# EAGLE library part LM2575D2T-5R4G (library SamacSys_Parts)
ON Semiconductor, LM2575D2T-5R4G Switching Regulator 1A, Maximum of 5 V, D2PAK 5-Pin Source: Datasheet <https://datasheet.datasheetarchive.com/originals/distributors/Datasheets-23/DSA-455635.pdf>
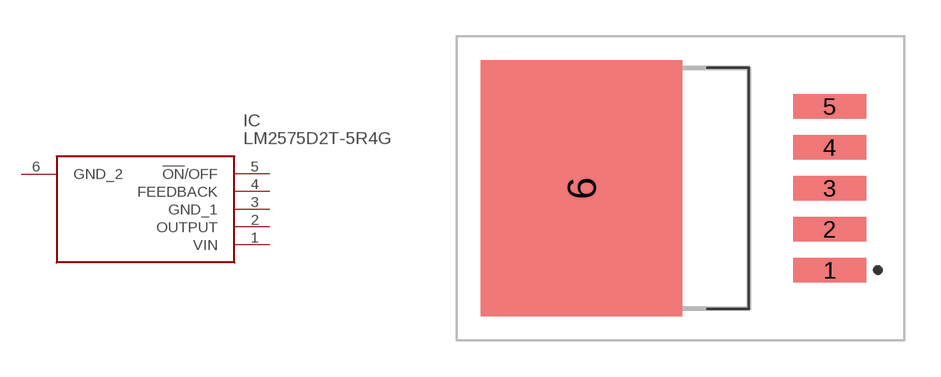
[diagram p14: symbol with the pads of NCP5663DSADJR4G; footprint NCP5663DSADJR4G]

Designator prefix IC

## LM2575D2T-5R4G (ARROW_PART_NUMBER: LM2575D2T-5R4G; ARROW_PRICE-STOCK: https://www.arrow.com/en/products/lm2575d2t-5r4g/on-semiconductor?region=nac; DESCRIPTION: ON Semiconductor, LM2575D2T-5R4G Switching Regulator 1A, Maximum of 5 V, D2PAK 5-Pin; HEIGHT: mm; MANUFACTURER_NAME: onsemi; MANUFACTURER_PART_NUMBER: LM2575D2T-5R4G; MOUSER_PART_NUMBER: 863-LM2575D2T-5R4G; MOUSER_PRICE-STOCK: https://www.mouser.co.uk/ProductDetail/onsemi/LM2575D2T-5R4G?qs=2OtswVQKCOFBLUwJlx%252BYMQ%3D%3D)  [NCP5663DSADJR4G]
1  VIN
2  OUTPUT
3  GND_1
4  FEEDBACK
5  !ON!/OFF
6  GND_2

## Footprint NCP5663DSADJR4G (pad centres in mm)
D2PAK 5LEAD CASE 936A02 ISSUE D
smd 3.05 x 1.016: 1 12.7,-3.404; 2 12.7,-1.702; 3 12.7,0; 4 12.7,1.702; 5 12.7,3.404
smd 8.38 x 10.66: 6 2.395,0